# Altium schematic symbol library MolexMicroFit3_4POS_2ROW_RA_TH.SchLib: 1 symbol
Pins are listed as number, name and electrical type; pins without a type are passive.

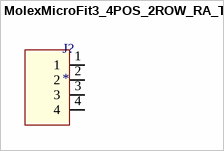
[diagram p0: symbol MolexMicroFit3_4POS_2ROW_RA_TH]

## MolexMicroFit3_4POS_2ROW_RA_TH
designator J?
CONN HEADER R/A 4POS 3MM / Manufacturer PN: 0430450401
footprint MolexMicroFit3_4POS_2ROW_RA_TH
pins: 1, 2, 3, 4